# EAGLE library part NL27WZ07 (library parts)
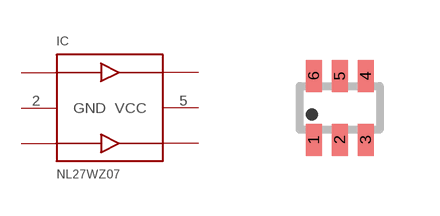
[diagram p3: symbol with the pads of SOT363; footprint SOT363]

Designator prefix IC

## NL27WZ07  [SOT363]
1  IN1
2  GND
3  IN2
4  OUT2
5  VCC
6  OUT1

## Footprint SOT363 (pad centres in mm)
SOT-363 (SC-706 Lead) Source: Data sheet <http://www.farnell.com/datasheets/461166.pdf>
smd 0.4 x 0.8: 1 -0.65,-0.8; 2 0,-0.8; 3 0.65,-0.8; 4 0.65,0.8; 5 0,0.8; 6 -0.65,0.8